# Altium footprint library CompSMD.PcbLib: 13 footprints
Each footprint in its own frame and in the unit in brackets; x right, y up, seen from the top. Pads: shape width x height; smd on the part's side, far side on the other; paste and mask are expansions set on the pad; w line width, h text height; cw(c..) or ccw(c..) is an arc to the next point about the centre after c.
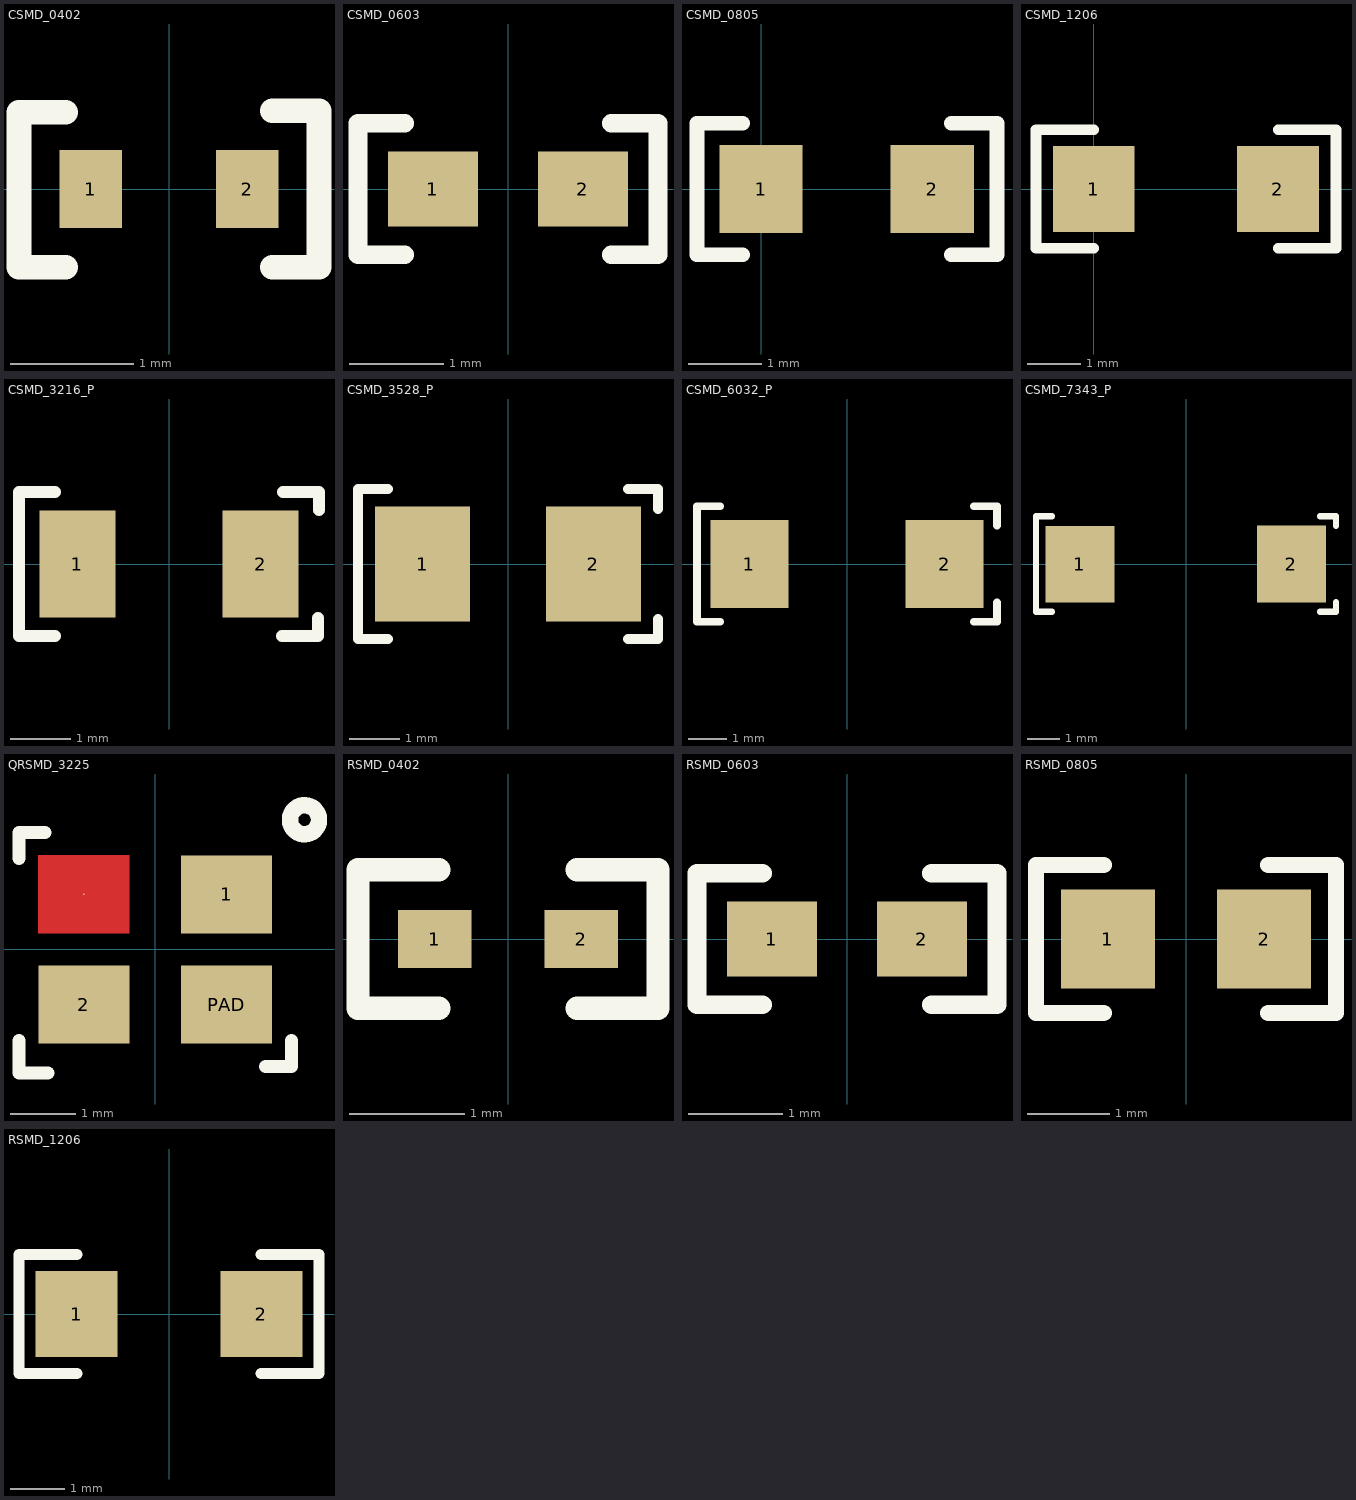
[diagram p0: the footprints below, top view; thin cyan lines are the x and y axes]

## CSMD_0402 [mil]
pads (2):
  rect 20x25 smd: 1(-25,0) 2(25,0)
Top Overlay:
  lines w7.87: -33,-25 -48,-25 -48,24.61 -33,24.61 ; 33,-25 48,-25 48,25 33,25
3D body "??????????? 0402.stp": height 13.78, standoff 0, extent -19.68,-10.04 19.68,10.04

## CSMD_0603 [mm]
pads (2):
  rect 0.965x0.8 smd: 1(-0.8,0) 2(0.8,0)
Top Overlay:
  lines w0.2: -1.1,-0.7 -1.6,-0.7 -1.6,0.7 -1.1,0.7 ; 1.1,-0.7 1.6,-0.7 1.6,0.7 1.1,0.7
3D body "Конденсатор 0603.stp": height 0.45, standoff 0, extent -0.8,-0.405 0.8,0.405

## CSMD_0805 [mm]
pads (2):
  rect 1.14x1.2 smd: 1(0,0) 2(2.34,0)
Top Overlay:
  lines w0.2: -0.25,-0.9 -0.875,-0.9 -0.875,0.9 -0.25,0.9 ; 2.6,-0.9 3.225,-0.9 3.225,0.9 2.6,0.9
3D body "??????????? 0805.stp": height 0.4, standoff 0, extent 0.175,-0.605 2.175,0.605

## CSMD_1206 [mm]
pads (2):
  rect 1.52x1.6 smd: 1(0,0) 2(3.42,0)
Top Overlay:
  lines w0.2: 0,-1.1 -1.075,-1.1 -1.075,1.1 0,1.1 ; 3.425,-1.1 4.5,-1.1 4.5,1.1 3.425,1.1
3D body "??????????? 1206.stp": height 0.5, standoff 0, extent 0.11,-0.805 3.31,0.805

## CSMD_3216_P [mm]
pads (2):
  rect 1.27x1.78 smd: 1(-1.525,0) 2(1.525,0)
Top Overlay:
  lines w0.2: -1.9,-1.2 -2.5,-1.2 -2.5,1.2 -1.9,1.2 ; 1.884,-1.199 2.484,-1.199 2.484,-0.9 ; 1.9,1.2 2.5,1.2 2.5,0.9
3D body "Csmd polar A.stp": height 1.6, standoff 0, extent -1.65,-0.8 1.65,0.8

## CSMD_3528_P [mm]
pads (2):
  rect 1.9x2.29 smd: 1(-1.71,0) 2(1.71,0)
Top Overlay:
  lines w0.2: -2.4,-1.5 -3,-1.5 -3,1.5 -2.4,1.5 ; 2.4,-1.5 3,-1.5 3,-1.1 ; 2.4,1.5 3,1.5 3,1.1
3D body "Csmd polar B.stp": height 1.9, standoff 0, extent -1.8,-1.4 1.8,1.4

## CSMD_6032_P [mm]
pads (2):
  rect 2.03x2.29 smd: 1(-2.54,0) 2(2.54,0)
Top Overlay:
  lines w0.2: -3.3,-1.5 -3.9,-1.5 -3.9,1.5 -3.3,1.5 ; 3.3,-1.5 3.9,-1.5 3.9,-1 ; 3.3,1.5 3.9,1.5 3.9,1
3D body "Csmd polar C.stp": height 2.5, standoff 0, extent -3.05,-1.6 3.05,1.6

## CSMD_7343_P [mm]
pads (2):
  rect 2.16x2.41 smd: 1(-3.323,-0.008) 2(3.305,0)
Top Overlay:
  lines w0.2: -4.2,-1.5 -4.7,-1.5 -4.7,1.5 -4.2,1.5 ; 4.2,-1.5 4.7,-1.5 4.7,-1.2 ; 4.2,1.5 4.7,1.5 4.7,1.2
3D body "Csmd polar D.stp": height 2.8, standoff 0, extent -3.7,-2.2 3.7,2.1

## QRSMD_3225 [mm]
pads (4):
  rect 1.4x1.2 smd: 1(1.1,0.85) 2(-1.1,-0.85) PAD(1.1,-0.85)
  round 0.025 smd: PAD(-1.1,0.85)
Top Layer:
  region: -0.4,0.25 -0.4,1.45 -1.8,1.45 -1.8,0.25
Top Overlay:
  circle w0.254: c2.3,2 r0.224
  lines w0.2: -2.1,-1.4 -2.1,-1.9 -1.95,-1.9 -1.65,-1.9 ; -2.1,1.4 -2.1,1.8 -1.7,1.8 ; 1.7,-1.8 2.1,-1.8 2.1,-1.4
3D body "QRSMD.stp": height 0.7, standoff 0, extent -1.6,-1.25 1.586,1.25

## RSMD_0402 [mm]
pads (2):
  rect 0.635x0.5 smd: 1(-0.635,0) 2(0.635,0)
Top Overlay:
  lines w0.2: -0.6,-0.6 -1.3,-0.6 -1.3,0.6 -0.6,0.6 ; 0.6,-0.6 1.3,-0.6 1.3,0.6 0.6,0.6
3D body "Резистор 0402.stp": height 0.35, standoff 0, extent -0.5,-0.255 0.5,0.255

## RSMD_0603 [mm] "0603"
pads (2):
  rect 0.965x0.8 smd: 1(-0.8,0) 2(0.8,0)
Top Overlay:
  lines w0.2: -0.9,-0.7 -1.6,-0.7 -1.6,0.7 -0.9,0.7 ; 0.9,-0.7 1.6,-0.7 1.6,0.7 0.9,0.7
3D body "Резистор 0603.stp": height 0.45, standoff 0, extent -0.8,-0.405 0.8,0.405

## RSMD_0805 [mm]
pads (2):
  rect 1.14x1.2 smd: 1(-0.95,0) 2(0.95,0)
Top Overlay:
  lines w0.2: -1,-0.9 -1.825,-0.9 -1.825,0.9 -1,0.9 ; 1,-0.9 1.825,-0.9 1.825,0.9 1,0.9
3D body "Резистор 0805.stp": height 0.4, standoff 0, extent -1,-0.605 1,0.605

## RSMD_1206 [mm]
pads (2):
  rect 1.52x1.6 smd: 1(-1.71,0) 2(1.71,0)
Top Overlay:
  lines w0.2: -1.7,-1.1 -2.775,-1.1 -2.775,1.1 -1.7,1.1 ; 1.7,-1.1 2.775,-1.1 2.775,1.1 1.7,1.1
3D body "Резистор 1206.stp": height 0.5, standoff 0, extent -1.6,-0.805 1.6,0.805